# Altium schematic symbol library CONNECTOR_COAXIAL.SchLib: 1 symbol
Pins are listed as number, name and electrical type; pins without a type are passive.

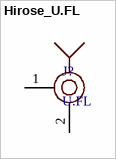
[diagram p0: symbol Hirose_U.FL]

## Hirose_U.FL
designator J?, comment U.FL
Hirose u.FL; MPN: *; LCSC: *
footprint HRS_U.FL-R-SMT(01)
pins: 1, 2